# EAGLE library part DRV2603 (library drv10)
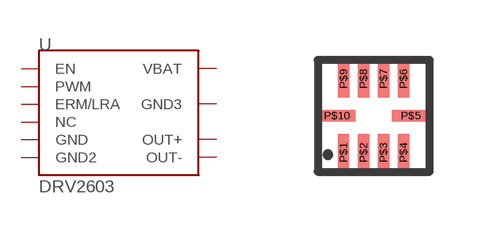
[diagram p0: symbol with the pads of QFN; footprint QFN]

Designator prefix -

## DRV2603  [QFN]
P$1  EN  pwr
P$2  PWM
P$3  ERM/LRA
P$4  NC  in
P$5  GND  in
P$6  OUT+
P$7  VBAT
P$8  GND2  in
P$9  OUT-
P$10  GND3

## Footprint QFN (pad centres in mm)
smd 0.28 x 0.95: P$1 -0.753,-0.925; P$2 -0.25,-0.925; P$3 0.25,-0.925; P$4 0.75,-0.925; P$6 0.75,0.925; P$7 0.25,0.925; P$8 -0.25,0.925; P$9 -0.75,0.925
smd 0.95 x 0.28: P$5 0.925,0; P$10 -0.925,0